# EAGLE library part BD9E302EFJ-E2 (library IC)
IC REG BUCK ADJ 3A 8HTSOP-J Manufacturer's datasheet <https://fscdn.rohm.com/en/products/databook/datasheet/ic/power/switching_regulator/bd9e302efj-e.pdf>
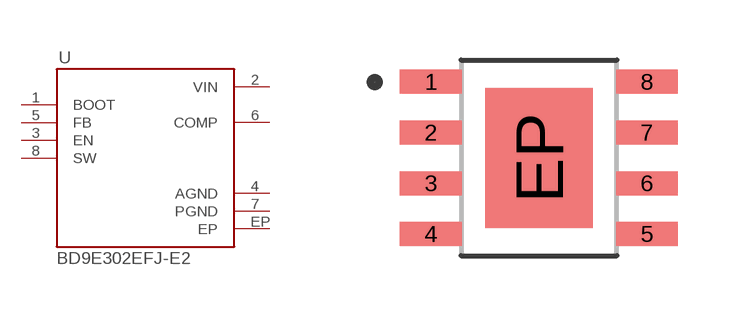
[diagram p39: symbol with the pads of 8-HTSOP-J; footprint 8-HTSOP-J]

Designator prefix U

## BD9E302EFJ-E2 (CREATED_BY: PCBLayout.com; DIGIKEY-PARTNO: BD9E302EFJ-E2DKR-ND; MANUFACTURER: Rohm Semiconductor; MPN: BD9E302EFJ-E2; PACKAGE: 8-HTSOP-J)  [8-HTSOP-J]
1  BOOT  in
2  VIN  pwr
3  EN  in
4  AGND  pwr
5  FB  in
6  COMP  out
7  PGND  pwr
8  SW  in
EP  EP  pwr

## Footprint 8-HTSOP-J (pad centres in mm)
smd 1.55 x 0.6: 1 -2.7,1.905; 2 -2.7,0.635; 3 -2.7,-0.635; 4 -2.7,-1.905; 5 2.7,-1.905; 6 2.7,-0.635; 7 2.7,0.635; 8 2.7,1.905
smd 2.7 x 3.5: EP 0,0